# Altium footprint library MISC.PcbLib: 28 footprints (part 1 of 2)
Each footprint in its own frame and in the unit in brackets; x right, y up, seen from the top. Pads: shape width x height; smd on the part's side, far side on the other; paste and mask are expansions set on the pad; w line width, h text height; cw(c..) or ccw(c..) is an arc to the next point about the centre after c.
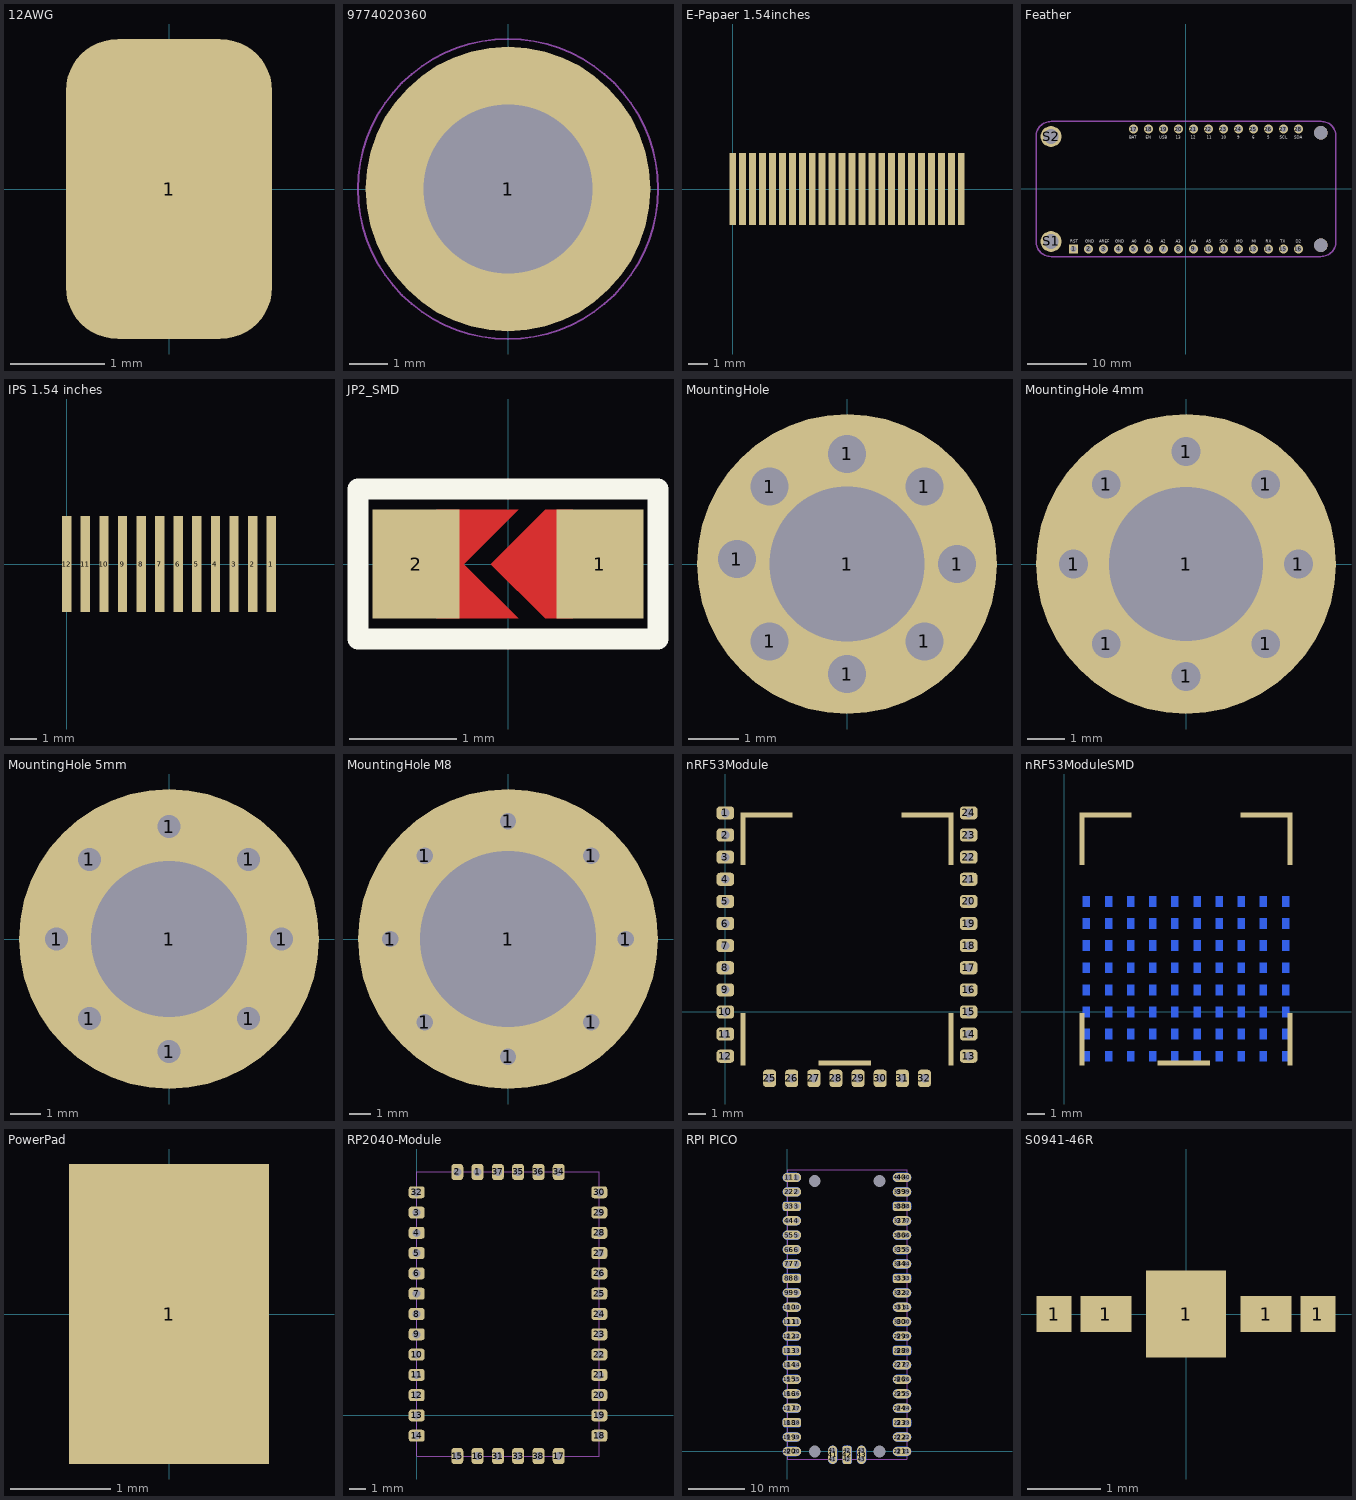
[diagram p0: the footprints below, top view; thin cyan lines are the x and y axes]

## 12AWG [mm]
pads (1):
  rrect50% 2.2x3.2 smd: 1(0,0)

## 9774020360 [mm] "M3 Thread Internal, Length 2mm"
height 2
pads (1):
  round 7.4 hole 4.4: 1(0,0)
Top Paste:
  region: -3.613,0.4 -2.204,0.4 -2.167,0.566 -2.057,0.886 -1.9,1.186 -1.699,1.46 -1.46,1.699 -1.186,1.9 -0.886,2.057 -0.566,2.167 -0.4,2.204 -0.4,3.613 -0.603,3.59 -1.003,3.5 -1.389,3.365 -1.758,3.188 -2.105,2.97 -2.425,2.715 -2.715,2.426 -2.97,2.106 -3.188,1.759 -3.365,1.39 -3.5,1.003 -3.59,0.604 -3.613,0.4
  region: -0.4,-3.613 -0.4,-2.204 -0.566,-2.167 -0.886,-2.057 -1.186,-1.9 -1.46,-1.699 -1.699,-1.46 -1.9,-1.186 -2.057,-0.886 -2.167,-0.566 -2.204,-0.4 -3.613,-0.4 -3.59,-0.603 -3.5,-1.003 -3.365,-1.389 -3.188,-1.758 -2.97,-2.105 -2.715,-2.425 -2.426,-2.715 -2.106,-2.97 -1.759,-3.188 -1.39,-3.365 -1.003,-3.5 -0.604,-3.59 -0.4,-3.613
  region: 3.613,-0.4 2.204,-0.4 2.167,-0.566 2.057,-0.886 1.9,-1.186 1.699,-1.46 1.46,-1.699 1.186,-1.9 0.886,-2.057 0.566,-2.167 0.4,-2.204 0.4,-3.613 0.603,-3.59 1.003,-3.5 1.389,-3.365 1.758,-3.188 2.105,-2.97 2.425,-2.715 2.715,-2.426 2.97,-2.106 3.188,-1.759 3.365,-1.39 3.5,-1.003 3.59,-0.604 3.613,-0.4
  region: 0.4,3.613 0.4,2.204 0.566,2.167 0.886,2.057 1.186,1.9 1.46,1.699 1.699,1.46 1.9,1.186 2.057,0.886 2.167,0.566 2.204,0.4 3.613,0.4 3.59,0.603 3.5,1.003 3.365,1.389 3.188,1.758 2.97,2.105 2.715,2.425 2.426,2.715 2.106,2.97 1.759,3.188 1.39,3.365 1.003,3.5 0.604,3.59 0.4,3.613
Mechanical 11:
  circle w0.1: c0,0 r3
  text ".Designator" at -1.75,-0.75 h1.5
Mechanical 13:
  circle w0.1: c0,0 r3
Mechanical 15:
  circle w0.05: c0,0 r3.9
  lines w0.05: -0.5,0 0.5,0 ; 0,-0.5 0,0.5
3D body "9774020360.stp": height 2, standoff -1.4, extent -3,-3 3,3

## E-Papaer 1.54inches [mm]
pads (24):
  rect 0.35x3.6 smd: 1(0,0) 2(0.5,0) 3(1,0) 4(1.5,0) 5(2,0) 6(2.5,0) 7(3,0) 8(3.5,0) 9(4,0) 10(4.5,0) 11(5,0) 12(5.5,0) 13(6,0) 14(6.5,0) 15(7,0) 16(7.5,0) 17(8,0) 18(8.5,0) 19(9,0) 20(9.5,0) 21(10,0) 22(10.5,0) 23(11,0) 24(11.5,0)
3D body "Waveshare 1.54 E ink - Display Flush Folded.stp": height 1.44, standoff 0.02, extent -9.85,-10.498 21.976,29.012

## Feather [mm] "Adafruit Feather footprint"
pads (32):
  rect 1.508x1.508 hole 1: 1(-19.05,-10.16)
  round 1.508 hole 1: 2(-16.51,-10.16) 3(-13.97,-10.16) 4(-11.43,-10.16) 5(-8.89,-10.16) 6(-6.35,-10.16) 7(-3.81,-10.16) 8(-1.27,-10.16) 9(1.27,-10.16) 10(3.81,-10.16) 11(6.35,-10.16) 12(8.89,-10.16) 13(11.43,-10.16) 14(13.97,-10.16) 15(16.51,-10.16) 16(19.05,-10.16) 17(-8.89,10.16) 18(-6.35,10.16) 19(-3.81,10.16) 20(-1.27,10.16) 21(1.27,10.16) 22(3.81,10.16) 23(6.35,10.16) 24(8.89,10.16) 25(11.43,10.16) 26(13.97,10.16) 27(16.51,10.16) 28(19.05,10.16)
  round 2.286 hole 2.286 unplated: None(22.86,-9.525) None(22.86,9.525)
  round 3.556 hole 2.54: S1(-22.86,-8.89) S2(-22.86,8.89)
Top Overlay:
  text "D2" at 18.6,-9.1 h0.51
  text "TX" at 16,-9.1 h0.51
  text "RX" at 13.5,-9.1 h0.51
  text "SCK" at 5.7,-9.1 h0.51
  text "A5" at 3.4,-9.1 h0.51
  text "A4" at 0.9,-9.1 h0.51
  text "A3" at -1.7,-9.1 h0.51
  text "A2" at -4.3,-9.1 h0.51
  text "A1" at -6.7,-9.1 h0.51
  text "A0" at -9.2,-9.1 h0.51
  text "GND" at -12,-9.1 h0.51
  text "RST" at -19.6,-9.1 h0.51
  text "SDA" at 18.362,8.494 h0.51
  text "SCL" at 15.9,8.5 h0.51
  text "5" at 13.8,8.5 h0.51
  text "6" at 11.2,8.5 h0.51
  text "9" at 8.7,8.5 h0.51
  text "10" at 6,8.5 h0.51
  text "11" at 3.5,8.5 h0.51
  text "12" at 0.8,8.5 h0.51
  text "13" at -1.7,8.5 h0.51
  text "USB" at -4.5,8.5 h0.51
  text "EN" at -6.8,8.5 h0.51
  text "BAT" at -9.578,8.494 h0.51
  text "MO" at 8.5,-9.1 h0.51
  text "MI" at 11.1,-9.1 h0.51
  text "GND" at -17.1,-9.1 h0.51
  text "AREF" at -14.7,-9.1 h0.51
Mechanical 1:
  lines w0.254: -25.41,-8.839 ccw(c-22.86,-8.89) -22.86,-11.44 22.808,-11.44 ; -25.41,-8.838 -25.41,8.89 cw(c-22.86,8.89) -22.809,11.44 22.911,11.44 cw(c22.911,8.94) 25.411,8.89 25.41,-8.89 cw(c22.86,-8.89) 22.809,-11.44

## IPS 1.54 inches [mm]
pads (12):
  rect 0.35x3.6 smd: 1(7.7,0) 2(7,0) 3(6.3,0) 4(5.6,0) 5(4.9,0) 6(4.2,0) 7(3.5,0) 8(2.8,0) 9(2.1,0) 10(1.4,0) 11(0.7,0) 12(0,0)
3D body "1.54 TFT IPS - 12P - Flat Flush Mount.stp": height 1.57, standoff 0.03, extent -11.873,-10.999 19.522,22.783

## JP2_SMD [mil]
pads (2):
  rect 32x40 smd: 1(33.75,0) 2(-33.75,0)
Top Layer:
  region: -26.25,0 -16.25,0 3.75,-20 -26.25,-20
  region: -26.25,0 -16.25,0 3.75,20 -26.25,20
  region: 23.75,20 13.75,20 -6.25,0 13.75,-20 23.75,-20
Top Overlay:
  lines w7.87: -55.12,-27.56 -55.12,27.56 55.12,27.56 55.12,-27.56 -55.12,-27.56
Top Paste:
  region: -26.25,0 -16.25,0 3.75,-20 -26.25,-20
  region: -26.25,0 -16.25,0 3.75,20 -26.25,20
  region: 23.75,20 13.75,20 -6.25,0 13.75,-20 23.75,-20
Top Solder:
  region: -26.25,0 -12.25,0 11.75,-24 -26.25,-24
  region: -26.25,0 -12.25,0 11.75,24 -26.25,24
  region: 23.75,24 13.75,24 -10.25,0 13.75,-24 23.75,-24

## MountingHole [mil] "3mm"
pads (9):
  round 60 hole 30: 1(-86.61,3.94) 1(-61.02,-61.02) 1(-61.02,61.02) 1(0,-86.61) 1(0,86.61) 1(61.02,-61.02) 1(61.02,61.02) 1(86.61,0)
  round 236.22 hole 122.05: 1(0,0)

## MountingHole 4mm [mil] "4.1mm"
pads (9):
  round 60 hole 30: 1(-118.11,0) 1(-83.52,-83.52) 1(-83.52,83.52) 1(0,-118.11) 1(0,118.11) 1(83.52,-83.52) 1(83.52,83.52) 1(118.11,0)
  round 314.96 hole 161.42: 1(0,0)

## MountingHole 5mm [mil] "5.2mm"
pads (9):
  round 60 hole 30: 1(-147.64,0) 1(-104.4,-104.4) 1(-104.4,104.4) 1(0,-147.64) 1(0,147.64) 1(104.4,-104.4) 1(104.4,104.4) 1(147.64,0)
  round 393.7 hole 204.72: 1(0,0)

## MountingHole M8 [mil] "8mm"
pads (9):
  round 60 hole 30: 1(-216.54,0) 1(-153.11,-153.11) 1(-153.11,153.11) 1(0,-216.54) 1(0,216.54) 1(153.11,-153.11) 1(153.11,153.11) 1(216.54,0)
  round 551.18 hole 322.83: 1(0,0)

## nRF53Module [mm] "Module"
pads (39):
  rrect50% 1x0.75 hole 0.5: 1(0,11.43) 2(0,10.16) 3(0,8.89) 4(0,7.62) 5(0,6.35) 6(0,5.08) 7(0,3.81) 8(0,2.54) 9(0,1.27) 10(0,0) 11(0,-1.27) 12(0,-2.54) 13(13.97,-2.54) 14(13.97,-1.27) 15(13.97,0) 16(13.97,1.27) 17(13.97,2.54) 18(13.97,3.81) 19(13.97,5.08) 20(13.97,6.35) 21(13.97,7.62) 22(13.97,8.89) 23(13.97,10.16) 24(13.97,11.43)
  rect 0.3x3 smd: 1(1.016,-1.571) 1(1.016,9.953) 1(12.954,-1.571) 1(12.954,9.953)
  rect 3x0.3 smd: 1(2.366,11.303) 1(6.858,-2.921) 1(11.604,11.303)
  rrect50% 0.75x1 hole 0.5: 25(2.54,-3.81) 26(3.81,-3.81) 27(5.08,-3.81) 28(6.35,-3.81) 29(7.62,-3.81) 30(8.89,-3.81) 31(10.16,-3.81) 32(11.43,-3.81)
3D body "RFShiels v32.step": height 1, standoff 0, extent 0.975,-2.97 13.025,11.35

## nRF53ModuleSMD [mm] "Module"
pads (87):
  rect 0.3x3 smd: 1(1.016,-1.571) 1(1.016,9.953) 1(12.954,-1.571) 1(12.954,9.953)
  rect 3x0.3 smd: 1(2.366,11.303) 1(6.858,-2.921) 1(11.604,11.303)
  rect 0.4x0.6 smd far side: 37(1.27,0) 38(2.54,0) 39(3.81,0) 40(5.08,0) 41(6.35,0) 42(7.62,0) 43(8.89,0) 44(10.16,0) 44(11.43,0) 44(12.7,0) 45(1.27,-2.54) 45(1.27,-1.27) 45(1.27,1.27) 45(1.27,2.54) 45(1.27,3.81) 45(1.27,5.08) 45(1.27,6.35) 46(2.54,-2.54) 46(2.54,-1.27) 46(2.54,1.27) 46(2.54,2.54) 46(2.54,3.81) 46(2.54,5.08) 46(2.54,6.35) 47(3.81,-2.54) 47(3.81,-1.27) 47(3.81,1.27) 47(3.81,2.54) 47(3.81,3.81) 47(3.81,5.08) 47(3.81,6.35) 48(5.08,-2.54) 48(5.08,-1.27) 48(5.08,1.27) 48(5.08,2.54) 48(5.08,3.81) 48(5.08,5.08) 48(5.08,6.35) 49(6.35,-2.54) 49(6.35,-1.27) 49(6.35,1.27) 49(6.35,2.54) 49(6.35,3.81) 49(6.35,5.08) 49(6.35,6.35) 50(7.62,-2.54) 50(7.62,-1.27) 50(7.62,1.27) 50(7.62,2.54) 50(7.62,3.81) 50(7.62,5.08) 50(7.62,6.35) 51(8.89,-2.54) 51(8.89,-1.27) 51(8.89,1.27) 51(8.89,2.54) 51(8.89,3.81) 51(8.89,5.08) 51(8.89,6.35) 52(10.16,-2.54) 52(10.16,-1.27) 52(10.16,1.27) 52(10.16,2.54) 52(10.16,3.81) 52(10.16,5.08) 52(10.16,6.35) 52(11.43,-2.54) 52(11.43,-1.27) 52(11.43,1.27) 52(11.43,2.54) 52(11.43,3.81) 52(11.43,5.08) 52(11.43,6.35) 52(12.7,-2.54) 52(12.7,-1.27) 52(12.7,1.27) 52(12.7,2.54) 52(12.7,3.81) 52(12.7,5.08) 52(12.7,6.35)
3D body "RFShiels v32.step": height 1, standoff 0, extent 0.975,-2.97 13.025,11.35

## PowerPad [mm]
pads (1):
  rect 2x3 all layers, no hole: 1(0,0)

## RP2040-Module [mm] "Module"
pads (38):
  rrect50% 0.75x1 hole 0.5: 1(3.81,15.24) 2(2.54,15.24) 15(2.54,-2.54) 16(3.81,-2.54) 17(8.89,-2.54) 31(5.08,-2.54) 33(6.35,-2.54) 34(8.89,15.24) 35(6.35,15.24) 36(7.62,15.24) 37(5.08,15.24) 38(7.62,-2.54)
  rrect50% 1x0.75 hole 0.5: 3(0,12.7) 4(0,11.43) 5(0,10.16) 6(0,8.89) 7(0,7.62) 8(0,6.35) 9(0,5.08) 10(0,3.81) 11(0,2.54) 12(0,1.27) 13(0,0) 14(0,-1.27) 18(11.43,-1.27) 19(11.43,0) 20(11.43,1.27) 21(11.43,2.54) 22(11.43,3.81) 23(11.43,5.08) 24(11.43,6.35) 25(11.43,7.62) 26(11.43,8.89) 27(11.43,10.16) 28(11.43,11.43) 29(11.43,12.7) 30(11.43,13.97) 32(0,13.97)
Mechanical 1:
  lines w0: 0,-2.54 11.43,-2.54 11.43,15.24 0,15.24 0,-2.54

## RPI PICO [mm] "PICO"
pads (176):
  round 1.6 hole 1: 1(0,48.26) 1(1.6,48.26) 2(0,45.72) 2(1.6,45.72) 3(0,43.18) 3(1.6,43.18) 4(0,40.64) 4(1.6,40.64) 5(0,38.1) 5(1.6,38.1) 6(0,35.56) 6(1.6,35.56) 7(0,33.02) 7(1.6,33.02) 8(0,30.48) 8(1.6,30.48) 9(0,27.94) 9(1.6,27.94) 10(0,25.4) 10(1.6,25.4) 11(0,22.86) 11(1.6,22.86) 12(0,20.32) 12(1.6,20.32) 13(0,17.78) 13(1.6,17.78) 14(0,15.24) 14(1.6,15.24) 15(0,12.7) 15(1.6,12.7) 16(0,10.16) 16(1.6,10.16) 17(0,7.62) 17(1.6,7.62) 18(0,5.08) 18(1.6,5.08) 19(0,2.54) 19(1.6,2.54) 20(0,0) 20(1.6,0) 21(19.4,0) 21(21,0) 22(19.4,2.54) 22(21,2.54) 23(19.4,5.08) 23(21,5.08) 24(19.4,7.62) 24(21,7.62) 25(19.4,10.16) 25(21,10.16) 26(19.4,12.7) 26(21,12.7) 27(19.4,15.24) 27(21,15.24) 28(19.4,17.78) 28(21,17.78) 29(19.4,20.32) 29(21,20.32) 30(19.4,22.86) 30(21,22.86) 31(19.4,25.4) 31(21,25.4) 32(19.4,27.94) 32(21,27.94) 33(19.4,30.48) 33(21,30.48) 34(19.4,33.02) 34(21,33.02) 35(19.4,35.56) 35(21,35.56) 36(19.4,38.1) 36(21,38.1) 37(19.4,40.64) 37(21,40.64) 38(19.4,43.18) 38(21,43.18) 39(19.4,45.72) 39(21,45.72) 40(19.4,48.26) 40(21,48.26) 41(7.96,-1.37) 41(7.96,0.23) 42(10.5,-1.37) 42(10.5,0.23) 43(13.04,-1.37) 43(13.04,0.23)
  oval 3.2x1.6 smd paste-1: 1(0.762,48.26) 2(0.762,45.72) 4(0.762,40.64) 5(0.762,38.1) 6(0.762,35.56) 7(0.762,33.02) 9(0.762,27.94) 10(0.762,25.4) 11(0.762,22.86) 12(0.762,20.32) 14(0.762,15.24) 15(0.762,12.7) 16(0.762,10.16) 17(0.762,7.62) 19(0.762,2.54) 20(0.762,0) 21(20.162,0) 22(20.162,2.54) 24(20.162,7.62) 25(20.162,10.16) 26(20.162,12.7) 27(20.162,15.24) 29(20.162,20.32) 30(20.162,22.86) 31(20.162,25.4) 32(20.162,27.94) 34(20.162,33.02) 35(20.162,35.56) 36(20.162,38.1) 37(20.162,40.64) 39(20.162,45.72) 40(20.162,48.26)
  oval 3.2x1.6 smd far side paste-1: 1(0.762,48.26) 2(0.762,45.72) 4(0.762,40.64) 5(0.762,38.1) 6(0.762,35.56) 7(0.762,33.02) 9(0.762,27.94) 10(0.762,25.4) 11(0.762,22.86) 12(0.762,20.32) 14(0.762,15.24) 15(0.762,12.7) 16(0.762,10.16) 17(0.762,7.62) 19(0.762,2.54) 20(0.762,0) 21(20.162,0) 22(20.162,2.54) 24(20.162,7.62) 25(20.162,10.16) 26(20.162,12.7) 27(20.162,15.24) 29(20.162,20.32) 30(20.162,22.86) 31(20.162,25.4) 32(20.162,27.94) 34(20.162,33.02) 35(20.162,35.56) 36(20.162,38.1) 37(20.162,40.64) 39(20.162,45.72) 40(20.162,48.26)
  rrect50% 3.2x1.6 smd paste-1: 3(0.762,43.18) 8(0.762,30.48) 13(0.762,17.78) 18(0.762,5.08) 23(20.162,5.08) 28(20.162,17.78) 33(20.162,30.48) 38(20.162,43.18)
  rrect50% 3.2x1.6 smd far side paste-1: 3(0.762,43.18) 8(0.762,30.48) 13(0.762,17.78) 18(0.762,5.08) 23(20.162,5.08) 28(20.162,17.78) 33(20.162,30.48) 38(20.162,43.18)
  oval 1.6x3.2 smd paste-1: 41(7.96,-0.608) 43(13.04,-0.608)
  oval 1.6x3.2 smd far side paste-1: 41(7.96,-0.608) 43(13.04,-0.608)
  rrect50% 1.6x3.2 smd paste-1: 42(10.5,-0.608)
  rrect50% 1.6x3.2 smd far side paste-1: 42(10.5,-0.608)
  round 1 hole 2.1 unplated: 44(4.8,0) 44(4.8,47.63) 44(16.2,0) 44(16.2,47.63)
Top Solder:
  lines w3.8: 4.775,-1.298 4.8,0 ; 4.8,47.63 4.858,50.629 ; 16.175,-1.298 16.2,0 ; 16.2,47.63 16.258,50.629
Mechanical 1:
  lines w0.2: 0,-1.37 0,49.63 21,49.63 21,-1.37 0,-1.37

## S0941-46R [mm] "Shield Clip"
pads (5):
  rect 0.48x0.5 smd: 1(-1.81,0) 1(1.81,0)
  rect 0.7x0.5 smd: 1(-1.1,0) 1(1.1,0)
  rect 1.1x1.2 smd: 1(0,0)
3D body "s0941-46.stp": height 1, standoff 0, extent -1.95,-0.55 1.95,0.55